# Altium schematic symbol library Schlib1.SchLib: 8 symbols
Pins are listed as number, name and electrical type; pins without a type are passive.

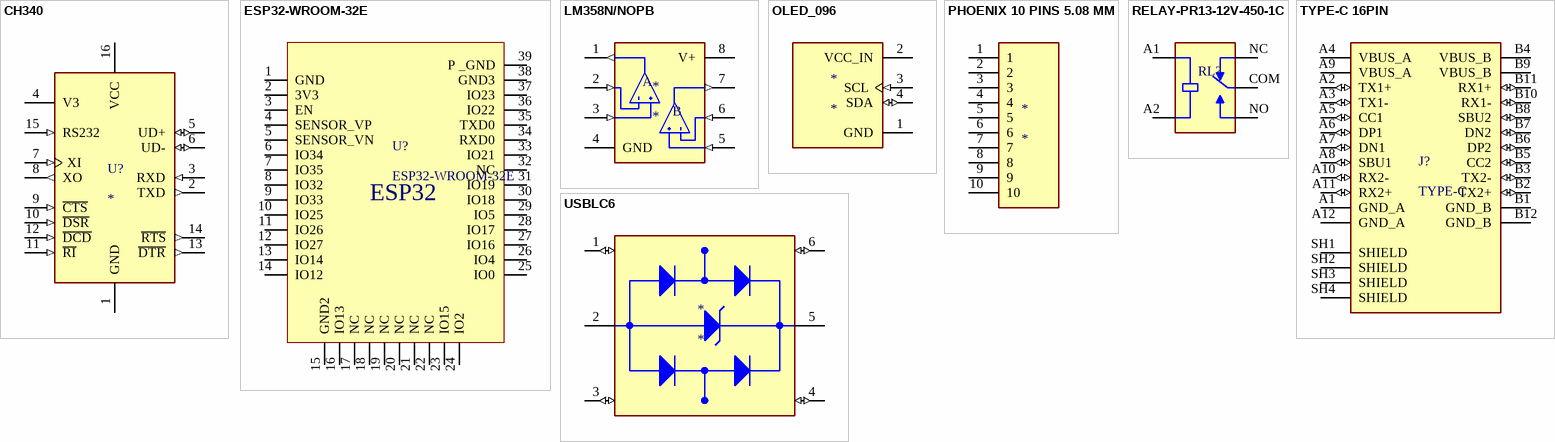
[diagram p0: symbols CH340 to USBLC6]

## CH340
designator U?
footprint CH340
pins: 1 GND (power), 2 TXD (out), 3 RXD (in), 4 V3 (power), 5 UD+ (io), 6 UD- (io), 7 XI (in), 8 XO (out), 9 ~{CTS} (in), 10 ~{DSR} (in), 11 ~{RI} (in), 12 ~{DCD} (in), 13 ~{DTR} (out), 14 ~{RTS} (out), 15 RS232 (in), 16 VCC (power)

## ESP32-WROOM-32E
designator U?
footprint ESP32
pins: 1 GND, 2 3V3, 3 EN, 4 SENSOR_VP, 5 SENSOR_VN, 6 IO34, 7 IO35, 8 IO32, 9 IO33, 10 IO25, 11 IO26, 12 IO27, 13 IO14, 14 IO12, 15 GND2, 16 IO13, 17 NC, 18 NC, 19 NC, 20 NC, 21 NC, 22 NC, 23 IO15, 24 IO2, 25 IO0, 26 IO4, 27 IO16, 28 IO17, 29 IO5, 30 IO18, 31 IO19, 32 NC, 33 IO21, 34 RXD0, 35 TXD0, 36 IO22, 37 IO23, 38 GND3, 39 P _GND
text: ESP32

## LM358N/NOPB
designator *
footprint LM358N/NOPB
pins: 1 OUTA (out), 2 -INA (in), 3 +INA (in), 4 GND (power), 5 +INB (in), 6 -INB (in), 7 OUTB (out), 8 V+ (power)
text: A; B

## OLED_096
designator *
footprint OLED096
pins: 1 GND (power), 2 VCC_IN (power), 3 SCL (in), 4 SDA (io)

## PHOENIX 10 PINS 5.08 MM
designator *
footprint PHOENIX 10 PINS 5.08 MM
pins: 1, 2, 3, 4, 5, 6, 7, 8, 9, 10

## RELAY-PR13-12V-450-1C
designator RL?
footprint RELAY_PR13-12V-450-1C
pins: A1 COIL1, A2 COIL2, COM, NC, NO

## TYPE-C 16PIN
designator J?, comment TYPE-C
pins: A1 GND_A (power), A2 TX1+ (io), A3 TX1- (io), A4 VBUS_A (power), A5 CC1 (io), A6 DP1 (io), A7 DN1 (io), A8 SBU1 (io), A9 VBUS_A (power), A10 RX2- (io), A11 RX2+ (io), A12 GND_A (power), B1 GND_B (power), B2 TX2+ (io), B3 TX2- (io), B4 VBUS_B (power), B5 CC2 (io), B6 DP2 (io), B7 DN2 (io), B8 SBU2 (io), B9 VBUS_B (power), B10 RX1- (io), B11 RX1+ (io), B12 GND_B (power), SH1 SHIELD, SH2 SHIELD, SH3 SHIELD, SH4 SHIELD

## USBLC6
designator *
footprint USBC6
pins: 1 I/O1_IN (io), 2 GND (power), 3 I/O2_IN (io), 4 I/O2_OUT (io), 5 VBUS (power), 6 I/O1_OUT (io)